# EAGLE library part W25Q16JVZPIM (library FaBo-NORFLASH)
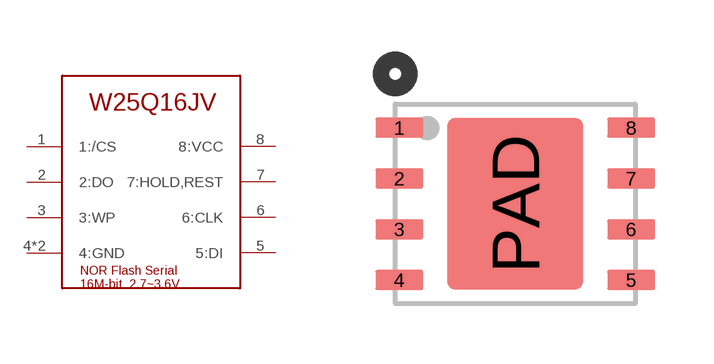
[diagram p0: symbol with the pads of WSON8; footprint WSON8]

Designator prefix -

## W25Q16JVZPIM  [WSON8]
1  1:/CS  in
2  2:DO  out
3  3:WP
4  4:GND  pwr
5  5:DI
6  6:CLK  in
7  7:HOLD,REST
8  8:VCC  pwr
PAD  4:GND  pwr

## Footprint WSON8 (pad centres in mm)
smd 1.2 x 0.5: 1 -2.9,1.905; 2 -2.9,0.635; 3 -2.9,-0.635; 4 -2.9,-1.905; 5 2.9,-1.905; 6 2.9,-0.635; 7 2.9,0.635; 8 2.9,1.905
smd 3.4 x 4.3: PAD 0,0